# Altium footprint library MyLib.PcbLib: 59 footprints (part 4 of 4)
Each footprint in its own frame and in the unit in brackets; x right, y up, seen from the top. Pads: shape width x height; smd on the part's side, far side on the other; paste and mask are expansions set on the pad; w line width, h text height; cw(c..) or ccw(c..) is an arc to the next point about the centre after c.
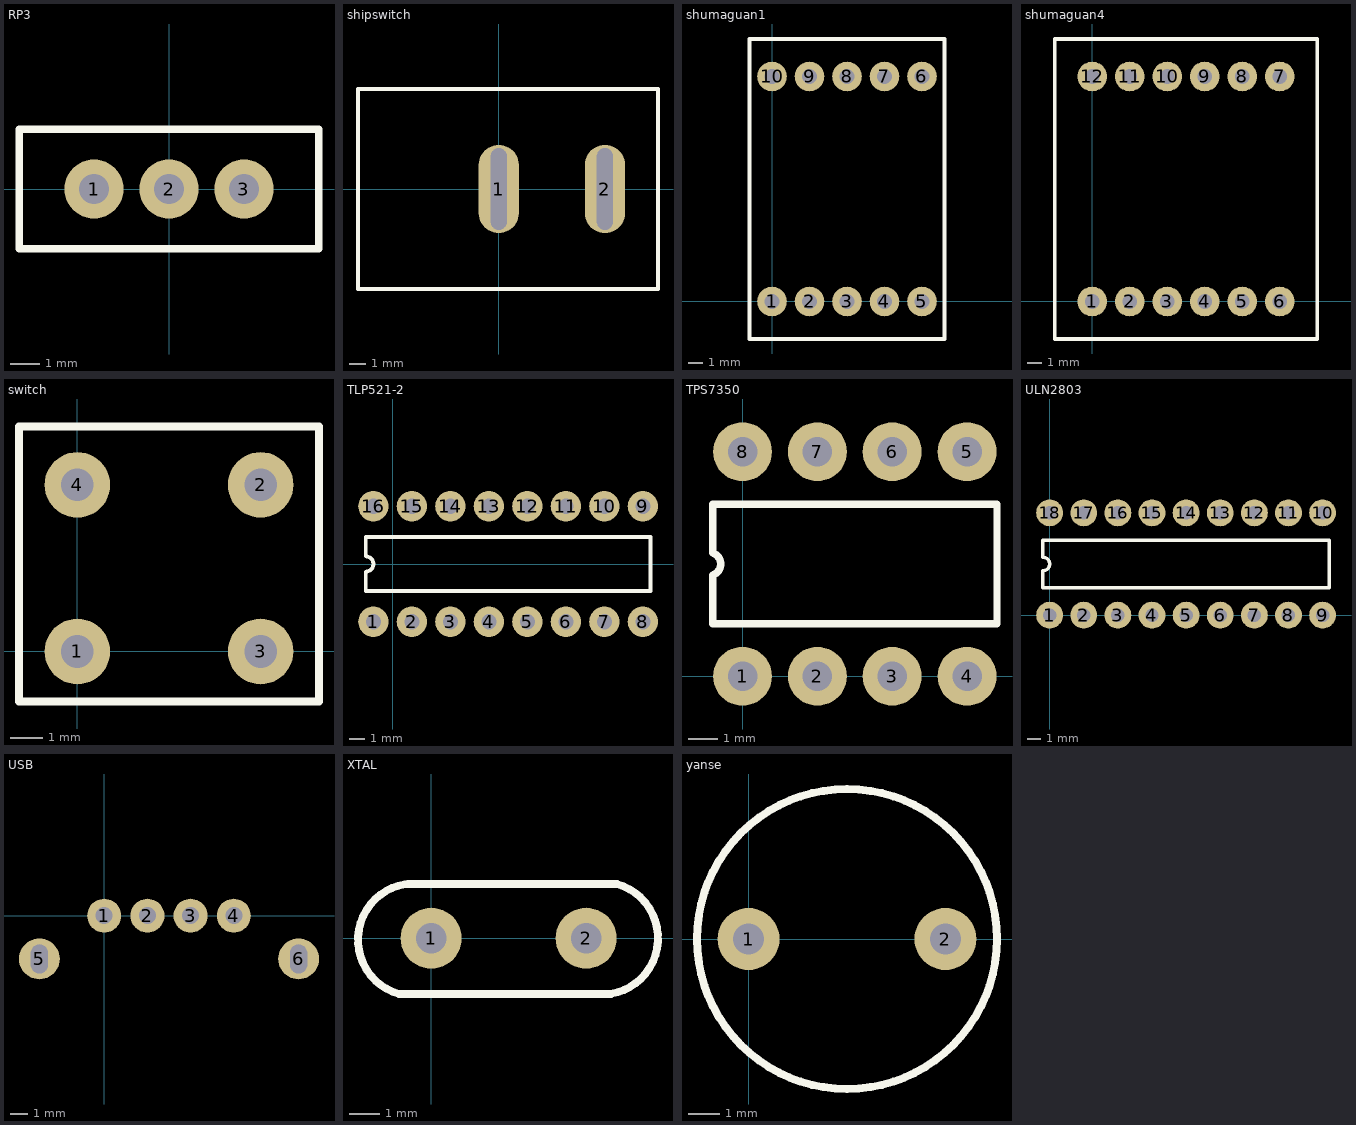
[diagram p3: the footprints below, top view; thin cyan lines are the x and y axes]

## RP3 [mm]
pads (3):
  round 2 hole 1: 1(-2.54,0) 2(0,0) 3(2.54,0)
Top Overlay:
  lines w0.254: -4.572,2.032 5.08,2.032 5.08,-2.032 -5.08,-2.032 -5.08,2.032 -3.048,2.032

## shipswitch [mm]
pads (2):
  oval 2.5x5.5 hole 1 slot 5.08 at 90 deg: 1(0,0) 2(6.604,0)
Top Overlay:
  lines w0.254: -5.334,6.223 -3.937,6.223 ; -4.826,6.223 -8.763,6.223 -8.763,-6.223 -4.699,-6.223 9.906,-6.223 9.906,6.223 -4.699,6.223

## shumaguan1 [mm]
pads (10):
  round 2 hole 1: 1(0,0) 2(2.54,0) 3(5.08,0) 4(7.62,0) 5(10.16,0) 6(10.16,15.24) 7(7.62,15.24) 8(5.08,15.24) 9(2.54,15.24) 10(0,15.24)
Top Overlay:
  lines w0.254: -1.524,-2.54 11.684,-2.54 11.684,17.78 -1.524,17.78 -1.524,-2.54

## shumaguan4 [mm]
pads (12):
  round 2 hole 1: 1(0,0) 2(2.54,0) 3(5.08,0) 4(7.62,0) 5(10.16,0) 6(12.7,0) 7(12.7,15.24) 8(10.16,15.24) 9(7.62,15.24) 10(5.08,15.24) 11(2.54,15.24) 12(0,15.24)
Top Overlay:
  lines w0.254: -2.54,-2.54 -2.54,17.78 15.24,17.78 15.24,-2.54 -2.54,-2.54

## switch [mm]
pads (4):
  round 2 hole 1: 1(0,0) 2(5.588,5.08) 3(5.588,0) 4(0,5.08)
Top Overlay:
  lines w0.254: -1.778,-1.524 -1.778,6.858 7.366,6.858 7.366,-1.524 -1.778,-1.524

## TLP521-2 [mm]
pads (16):
  round 2 hole 1: 1(-1.27,-3.81) 2(1.27,-3.81) 3(3.81,-3.81) 4(6.35,-3.81) 5(8.89,-3.81) 6(11.43,-3.81) 7(13.97,-3.81) 8(16.51,-3.81) 9(16.51,3.81) 10(13.97,3.81) 11(11.43,3.81) 12(8.89,3.81) 13(6.35,3.81) 14(3.81,3.81) 15(1.27,3.81) 16(-1.27,3.81)
Top Overlay:
  lines w0.254: -1.778,-1.778 -1.778,-0.508 ccw(c-1.778,0) -1.778,0.508 -1.778,1.778 0.254,1.778 17.018,1.778 17.018,-1.778 -1.778,-1.778

## TPS7350 [mm]
pads (8):
  round 2 hole 1: 1(0,0) 2(2.54,0) 3(5.08,0) 4(7.62,0) 5(7.62,7.62) 6(5.08,7.62) 7(2.54,7.62) 8(0,7.62)
Top Overlay:
  lines w0.254: -1.016,1.778 -1.016,3.429 ccw(c-1.143,3.81) -1.016,4.191 -1.016,5.842 0,5.842 8.636,5.842 8.636,1.778 -1.016,1.778

## ULN2803 [mm]
pads (18):
  round 2 hole 1: 1(0,0) 2(2.54,0) 3(5.08,0) 4(7.62,0) 5(10.16,0) 6(12.7,0) 7(15.24,0) 8(17.78,0) 9(20.32,0) 10(20.32,7.62) 11(17.78,7.62) 12(15.24,7.62) 13(12.7,7.62) 14(10.16,7.62) 15(7.62,7.62) 16(5.08,7.62) 17(2.54,7.62) 18(0,7.62)
Top Overlay:
  lines w0.254: -0.508,2.032 -0.508,3.302 ccw(c-0.508,3.81) -0.508,4.318 -0.508,5.588 1.524,5.588 20.828,5.588 20.828,2.032 -0.508,2.032

## USB [mm]
pads (6):
  round 2 hole 1: 1(0,0) 2(2.54,0) 3(5.08,0) 4(7.62,0)
  round 2.4 hole 1 slot 1.7 at 90 deg: 5(-3.81,-2.54) 6(11.43,-2.54)

## XTAL [mm]
pads (2):
  round 2 hole 1: 1(0,0) 2(5.08,0)
Top Overlay:
  lines w0.254: -0.855,1.773 ccw(c-0.551,-0.051) -1.059,-1.829 5.892,-1.829 ; -0.762,1.778 6.096,1.778 cw(c5.588,0) 5.892,-1.824

## yanse [mm]
pads (2):
  round 2 hole 1: 1(0,0) 2(6.35,0)
Top Overlay:
  circle w0.254: c3.175,0 r4.836